# EAGLE library part MC14106B (library _PWM_driver)
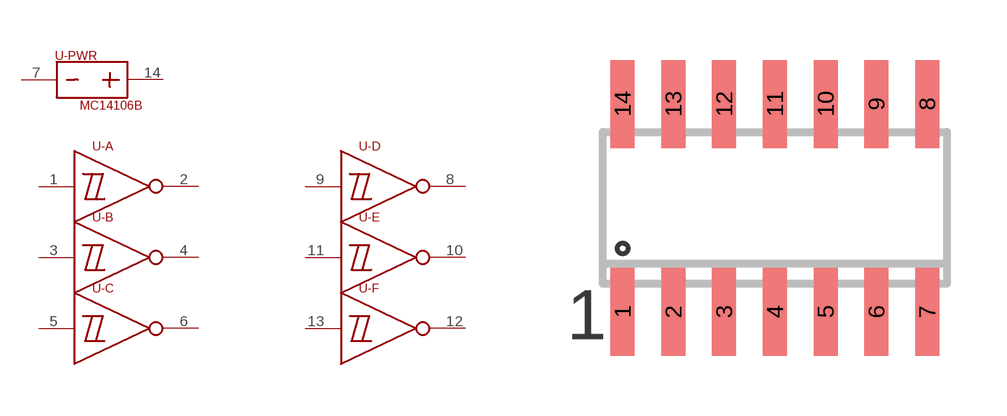
[diagram p2: symbol with the pads of SO-14; footprint SO-14]

Designator prefix U; gates -PWR=GATE_POWER -A=INVERTER_SCHMITT -B=INVERTER_SCHMITT -C=INVERTER_SCHMITT -D=INVERTER_SCHMITT -E=INVERTER_SCHMITT -F=INVERTER_SCHMITT

## MC14106BDR2G  [SO-14]
1  -A:IN  in
2  -A:OUT  out
3  -B:IN  in
4  -B:OUT  out
5  -C:IN  in
6  -C:OUT  out
7  -PWR:NEG  pwr
8  -D:OUT  out
9  -D:IN  in
10  -E:OUT  out
11  -E:IN  in
12  -F:OUT  out
13  -F:IN  in
14  -PWR:POS  pwr

## Footprint SO-14 (pad centres in mm)
Small Outline Narrow Plastic Gull Wing 150-mil body, package type SL
smd 0.6 x 2.2: 1 -3.81,-2.6; 2 -2.54,-2.6; 3 -1.27,-2.6; 4 0,-2.6; 5 1.27,-2.6; 6 2.54,-2.6; 7 3.81,-2.6; 8 3.81,2.6; 9 2.54,2.6; 10 1.27,2.6; 11 0,2.6; 12 -1.27,2.6; 13 -2.54,2.6; 14 -3.81,2.6